# EAGLE library part 691311500021 (library Wurth_Connectors_WR-TBL Pluggable Connector)
WR-TBL Serie 311 - 5.08 mm Open Vertical PCB Header KIND PROPERTIES Pitch 5.08 mm MATERIAL PROPERTIES Insulator Material PA66 Insulator Flammability Rating UL94 V-0 Contact Material Brass Contact Plating Tin GENERAL INFORMATION Operating Temperature -40 up to +105 °C ELECTRICAL PROPERTIES IR cULus 20 A IR VDE 20 A Working Voltage 300 V (AC) Working Voltage [cULus] 300 V (AC) Working Voltage [VDE] 300 V (AC) Withstanding Voltage [cULus] 1600 V (AC) Withstanding Voltage [VDE] 2500 V (AC) Contact Resistance [cULus] 20 mΩ Contact Resistance [VDE] 20 mΩ CERTIFICATION cULus Approval E315414 VDE Approval 40023195 <https://www.we-online.com/catalog/media/o33257v209%20Family_WR-TBL_6913115000xx.jpg> Details see: www.we-online.com/catalog/TBL_5_08_311_OPEN_VERTICAL_PCB_HEADER_6913115000XX <www.we-online.com/catalog/TBL_5_08_311_OPEN_VERTICAL_PCB_HEADER_6913115000XX/?utm_source=eagle_model&utm_medium=description_link&utm_campaign=eisos_eagle> Updated by Ella Wu 2022-07-25 2022(C) Wurth Elektronik
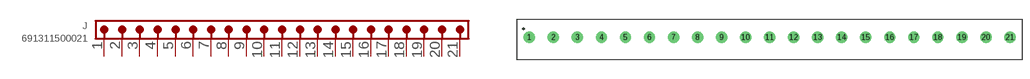
[diagram p267: symbol with the pads of 691311500021; footprint 691311500021]

Designator prefix J

## 691311500021 (DATASHEET-URL: https://www.we-online.com/redexpert/spec/691311500021?ae; IR-UL: 20A; IR-VDE: 20A; MOUNT: THT; PART-NUMBER: 691311500021; PINS: 21; PITCH: 5.08mm; TYPE: Vertical; VALUE: 691311500021; WORKING-VOLTAGE-UL: 300V (AC); WORKING-VOLTAGE-VDE: 300V (AC))  [691311500021]
1  1  pas
2  2  pas
3  3  pas
4  4  pas
5  5  pas
6  6  pas
7  7  pas
8  8  pas
9  9  pas
10  10  pas
11  11  pas
12  12  pas
13  13  pas
14  14  pas
15  15  pas
16  16  pas
17  17  pas
18  18  pas
19  19  pas
20  20  pas
21  21  pas

## Footprint 691311500021 (pad centres in mm)
WR-TBL Serie 311 - 5.08 mm Open Vertical PCB Header Max Height = 12mm , Pitch 5.08mm , 21pins
drill 1.6: 1 -50.8,0; 2 -45.72,0; 3 -40.64,0; 4 -35.56,0; 5 -30.48,0; 6 -25.4,0; 7 -20.32,0; 8 -15.24,0; 9 -10.16,0; 10 -5.08,0; 11 0,0; 12 5.08,0; 13 10.16,0; 14 15.24,0; 15 20.32,0; 16 25.4,0; 17 30.48,0; 18 35.56,0; 19 40.64,0; 20 45.72,0; 21 50.8,0